# EAGLE library part 85502-5008 (library ell-i)
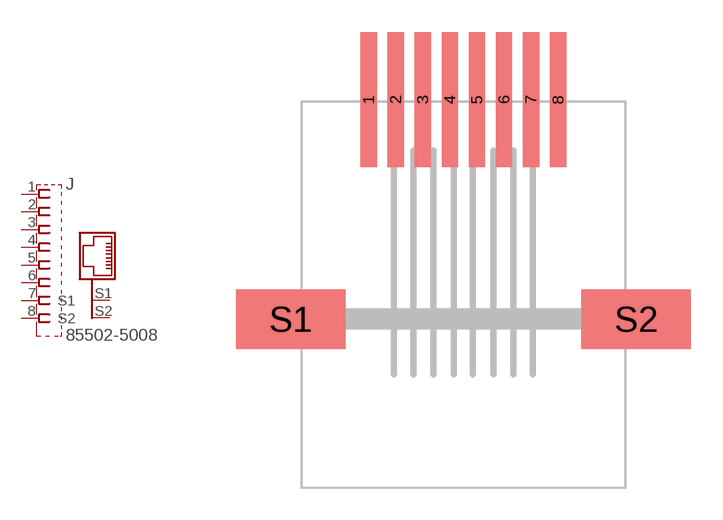
[diagram p12: symbol with the pads of 85502-5008; footprint 85502-5008]

Designator prefix J

## 85502-5008  [85502-5008]
1  1  pas
2  2  pas
3  3  pas
4  4  pas
5  5  pas
6  6  pas
7  7  pas
8  8  pas
S1  S1
S2  S2

## Footprint 85502-5008 (pad centres in mm)
smd 0.76 x 6.35: 1 -4.445,10.3; 2 -3.175,10.3; 3 -1.905,10.3; 4 -0.635,10.3; 5 0.635,10.3; 6 1.905,10.3; 7 3.175,10.3; 8 4.445,10.3
smd 5.15 x 2.8: S1 -8.1,0; S2 8.1,0